# Altium footprint library DXPpcb.PCBLIB: 575 footprints (part 12 of 36)
Each footprint in its own frame and in the unit in brackets; x right, y up, seen from the top. Pads: shape width x height; smd on the part's side, far side on the other; paste and mask are expansions set on the pad; w line width, h text height; cw(c..) or ccw(c..) is an arc to the next point about the centre after c.
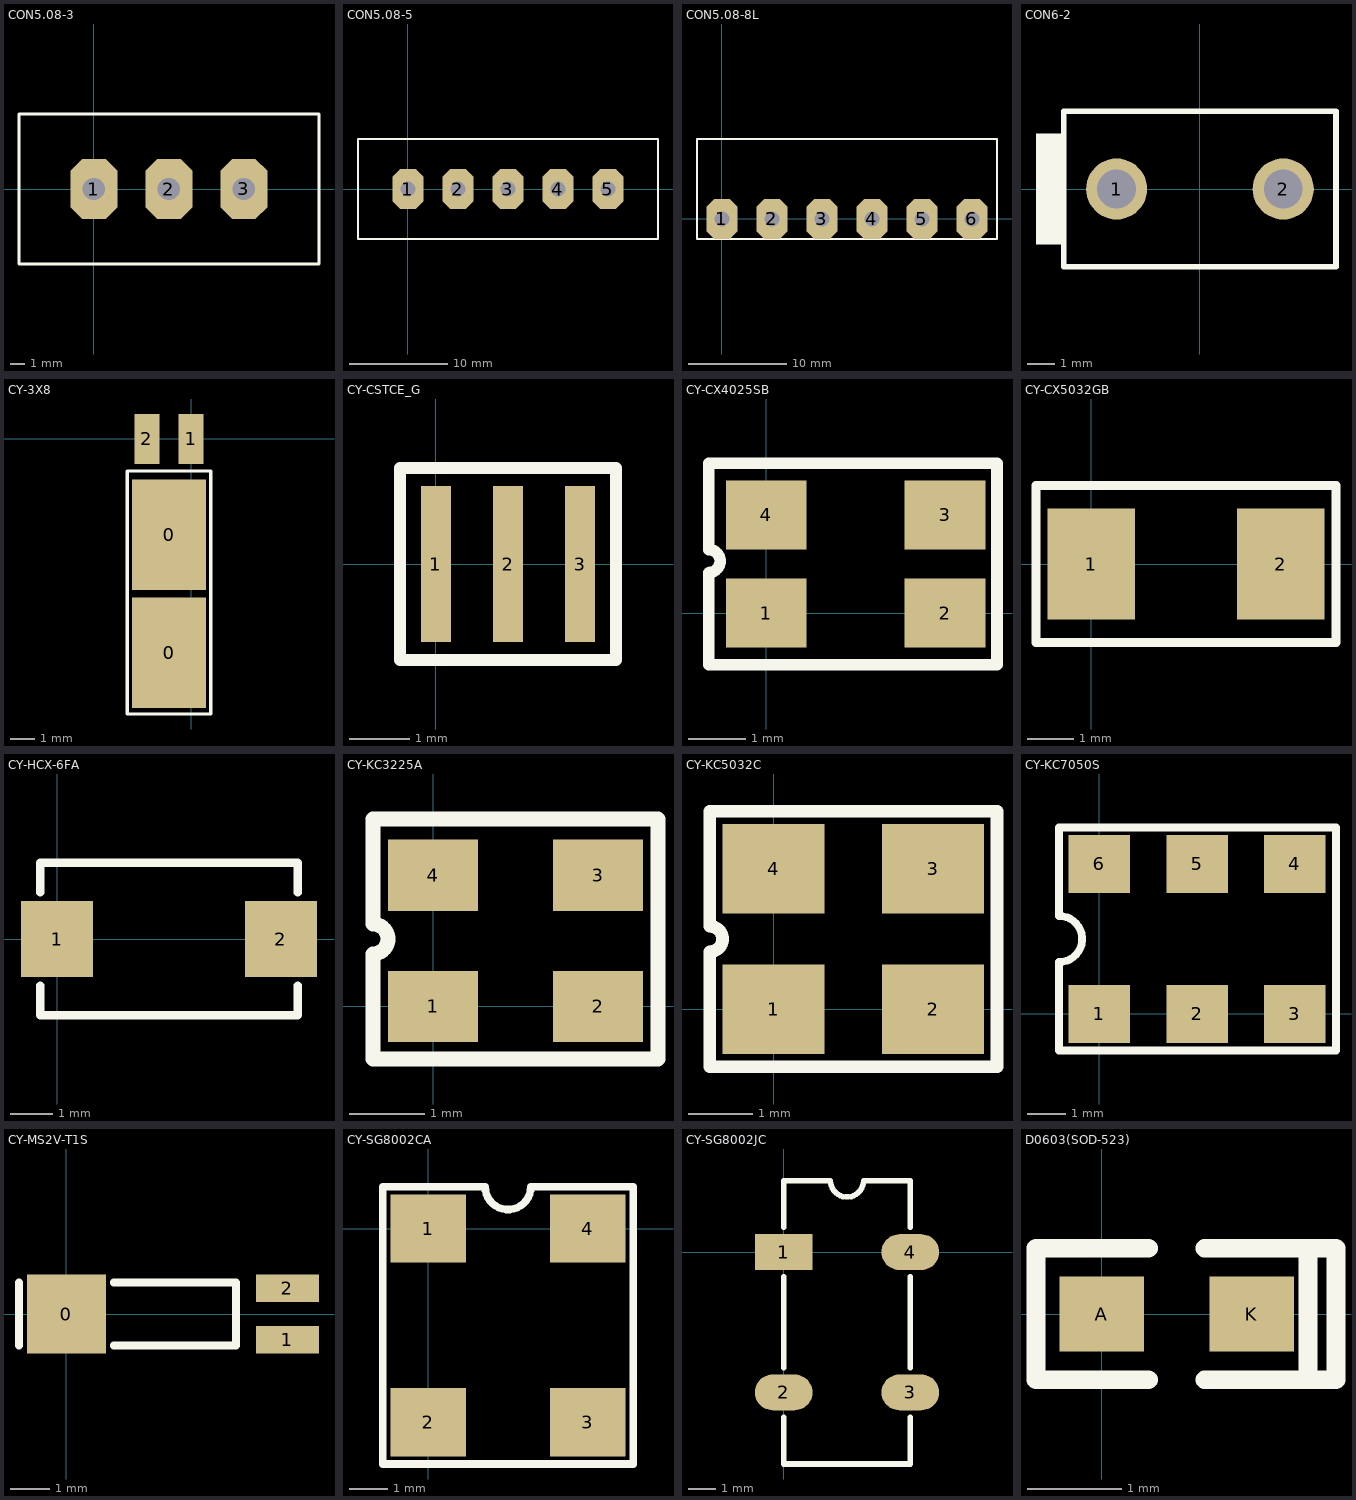
[diagram p11: the footprints below, top view; thin cyan lines are the x and y axes]

## CON5.08-3 [mil]
pads (3):
  oct 125x160 hole 60: 1(0,0) 2(200,0) 3(400.01,0.01)
TopOverlay:
  lines w7.87: -200,-200 -200,200 600.35,200 600.35,-200 -200,-200

## CON5.08-5 [mil]
pads (5):
  oct 125x160 hole 60: 1(0,0) 2(200,0) 3(400,0) 4(600,0) 5(800,0)
TopOverlay:
  lines w7.87: -200,-200 1000.35,-200 1000.35,200 -200,200 -200,-200

## CON5.08-8L [mil]
pads (6):
  oct 125x160 hole 60: 1(0,0) 2(200,0) 3(400,0) 4(600,0) 5(800,0) 6(1000,0)
TopOverlay:
  lines w7.87: -100,-80 1100.35,-80 1100.35,320 -100,320 -100,-80

## CON6-2 [mm]
pads (2):
  round 2.2 hole 1.4: 1(-3,0) 2(3,0)
TopOverlay:
  rectangle: -5.9,-2 -4.9,2
  lines w0.2: -4.9,-2.8 -4.9,2.8 4.9,2.8 4.9,-2.8 -4.9,-2.8

## CY-3X8 [mm]
pads (4):
  rect 3x4.5 smd: 0(-0.9,-8.7) 0(-0.9,-3.9)
  rect 1.016x2.032 smd: 1(0,0) 2(-1.8,0)
TopOverlay:
  lines w0.127: -2.6,-11.2 -2.6,-1.3 0.8,-1.3 0.8,-11.2 -2.6,-11.2

## CY-CSTCE_G [mm]
pads (3):
  rect 0.5x2.6 smd: 1(0,0) 2(1.2,0) 3(2.4,0)
TopOverlay:
  lines w0.2: -0.6,-1.6 3,-1.6 3,1.6 -0.6,1.6 -0.6,-1.6

## CY-CX4025SB [mm]
pads (4):
  rect 1.4x1.2 smd: 1(0,0) 2(3.1,0) 3(3.1,1.7) 4(0,1.7)
TopOverlay:
  lines w0.2: -1,-0.9 -1,0.7 ccw(c-1,0.9) -1,1.1 -1,2.6 4,2.6 4,-0.9 -1,-0.9

## CY-CX5032GB [mm]
pads (2):
  rect 1.9x2.4 smd: 1(0,0) 2(4.1,0)
TopOverlay:
  lines w0.2: -1.2,-1.7 3.7,-1.7 5.3,-1.7 5.3,1.7 3.7,1.7 -1.2,1.7 -1.2,-1.7

## CY-HCX-6FA [mm]
pads (2):
  rect 1.7x1.8 smd: 1(0,0) 2(5.3,0)
TopOverlay:
  lines w0.2: -0.4,-1.1 -0.4,-1.8 5.7,-1.8 5.7,-1.1 ; -0.4,1.1 -0.4,1.8 5.7,1.8 5.7,1.1

## CY-KC3225A [mm]
pads (4):
  rect 1.2x0.95 smd: 1(0,0) 2(2.2,0) 3(2.2,1.75) 4(0,1.75)
TopOverlay:
  lines w0.2: -0.8,-0.7 3,-0.7 3,2.5 -0.8,2.5 -0.8,1.1 cw(c-0.8,0.9) -0.8,0.7 -0.8,-0.7

## CY-KC5032C [mm]
pads (4):
  rect 1.6x1.4 smd: 1(0,0) 2(2.5,0) 3(2.5,2.2) 4(0,2.2)
TopOverlay:
  lines w0.2: -1,-0.9 -1,0.9 ccw(c-1,1.1) -1,1.3 -1,3.1 3.5,3.1 3.5,-0.9 -1,-0.9

## CY-KC7050S [mm]
pads (6):
  rect 1.6x1.5 smd: 1(0,0) 2(2.54,0) 3(5.08,0) 4(5.08,3.9) 5(2.54,3.9) 6(0,3.9)
TopOverlay:
  lines w0.2: -1.05,-0.95 -1.05,1.35 ccw(c-1.05,1.95) -1.05,2.55 -1.05,4.85 6.15,4.85 6.15,-0.95 -1.05,-0.95

## CY-MS2V-T1S [mm]
pads (3):
  rect 2x2 smd: 0(0,0)
  rect 1.6x0.7 smd: 1(5.6,-0.65) 2(5.6,0.65)
TopOverlay:
  lines w0.2: -1.2,-0.8 -1.2,0.8 ; 1.2,-0.8 4.3,-0.8 4.3,0.8 1.2,0.8

## CY-SG8002CA [mm]
pads (4):
  rect 2x1.8 smd: 1(0,0) 2(0,-5.1) 3(4.2,-5.1) 4(4.2,0)
TopOverlay:
  lines w0.2: -1.2,-6.2 5.4,-6.2 5.4,0.2 5.4,1.1 2.7,1.1 cw(c2.1,1.1) 1.5,1.1 -1.2,1.1 -1.2,-2.4 -1.2,-6.2

## CY-SG8002JC [mm]
pads (4):
  rect 2.1x1.3 smd: 1(0,0)
  oval 2.1x1.3 smd: 2(0,-5.1) 3(4.6,-5.1) 4(4.6,0)
TopOverlay:
  lines w0.2: 0,-6 0,-7.7 4.6,-7.7 4.6,-6 ; 0,-4.2 0,-0.9 ; 0,0.9 0,2.6 1.7,2.6 ccw(c2.3,2.6) 2.9,2.6 4.6,2.6 4.6,0.9 ; 4.6,-4.2 4.6,-0.9

## D0603(SOD-523) [mm]
pads (2):
  rect 0.9x0.8 smd: A(0,0) K(1.6,0)
TopOverlay:
  lines w0.2: 0.5,-0.7 -0.7,-0.7 -0.7,0.7 0.5,0.7 ; 1.1,-0.7 2.5,-0.7 2.5,0.7 1.1,0.7 ; 2.2,-0.7 2.2,0.7